# Altium footprint library Packaging.PcbLib: 3 footprints
Each footprint in its own frame and in the unit in brackets; x right, y up, seen from the top. Pads: shape width x height; smd on the part's side, far side on the other; paste and mask are expansions set on the pad; w line width, h text height; cw(c..) or ccw(c..) is an arc to the next point about the centre after c.
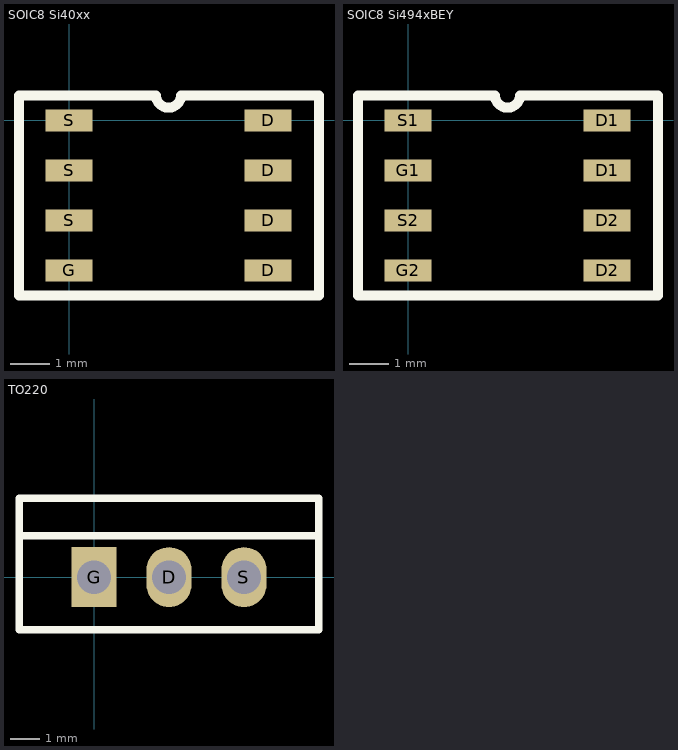
[diagram p0: the footprints below, top view; thin cyan lines are the x and y axes]

## SOIC8 Si40xx [mil]
pads (8):
  rect 47x22 smd: D(199,-150) D(199,-100) D(199,-50) D(199,0) G(0,-150) S(0,-100) S(0,-50) S(0,0)
Top Overlay:
  lines w10: -50,-175 -50,25 87,25 ccw(c99.5,25) 112,25 250,25 250,-175 -50,-175
3D body: height 61, standoff 0, extent 30,-165 170,15

## SOIC8 Si494xBEY [mil]
pads (8):
  rect 47x22 smd: D1(199,-50) D1(199,0) D2(199,-150) D2(199,-100) G1(0,-50) G2(0,-150) S1(0,0) S2(0,-100)
Top Overlay:
  lines w10: -50,-175 250,-175 250,25 112,25 cw(c99.5,25) 87,25 -50,25 -50,-175
3D body: height 61, standoff 0, extent 30,-165 170,15

## TO220 [mil]
pads (3):
  oval 60x80 hole 45: D(100,0) S(200,0)
  rect 60x80 hole 45: G(0,0)
Top Overlay:
  lines w10: -100,55 300,55 ; -100,-70 -100,105 300,105 300,-70 -100,-70
3D body: height 150, standoff -50, extent 185.11,-14.97 215.01,14.98
3D body: height 150, standoff -50, extent 85.11,-14.97 115.01,14.98
3D body: height 150, standoff -50, extent -14.89,-14.97 15.01,14.98
3D body: height 750, standoff 500, extent -105,55 305,105
3D body: height 500, standoff 150, extent -105,-75 305,110